# Altium footprint library fan_control.PcbLib: 1 footprints
Each footprint in its own frame and in the unit in brackets; x right, y up, seen from the top. Pads: shape width x height; smd on the part's side, far side on the other; paste and mask are expansions set on the pad; w line width, h text height; cw(c..) or ccw(c..) is an arc to the next point about the centre after c.
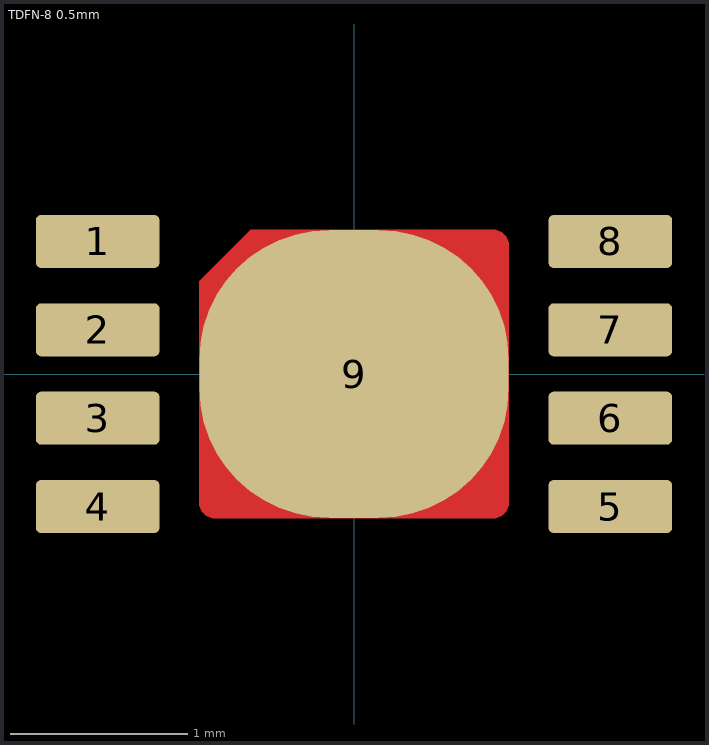
[diagram p0: the footprint, top view; thin cyan lines are the x and y axes]

## TDFN-8 0.5mm [mm] "TDFN, 8 Pin, 0.5mm Spacing"
pads (9):
  rrect20% 0.7x0.3 smd: 1(-1.45,0.75) 2(-1.45,0.25) 3(-1.45,-0.25) 4(-1.45,-0.75) 5(1.45,-0.75) 6(1.45,-0.25) 7(1.45,0.25) 8(1.45,0.75)
  rrect90% 1.75x1.63 smd: 9(0,0)
Top Layer:
  region: -0.585,0.815 -0.875,0.525 -0.875,-0.725 -0.875,-0.743 -0.861,-0.776 -0.836,-0.801 -0.803,-0.815 -0.785,-0.815 0.785,-0.815 0.803,-0.815 0.836,-0.801 0.861,-0.776 0.875,-0.743 0.875,-0.725 0.875,0.725 0.875,0.743 0.861,0.776 0.836,0.801 0.803,0.815 0.785,0.815
3D body: height 0.75, standoff 0.02, extent -1.5,-1 1.5,1
3D body: height 0.2, standoff 0, extent -1.501,-0.875 -1.101,-0.625
3D body: height 0.2, standoff 0, extent -1.501,-0.375 -1.101,-0.125
3D body: height 0.2, standoff 0, extent -1.501,0.125 -1.101,0.375
3D body: height 0.2, standoff 0, extent -1.501,0.625 -1.101,0.875
3D body: height 0.2, standoff 0, extent 1.101,-0.875 1.501,-0.625
3D body: height 0.2, standoff 0, extent 1.101,-0.375 1.501,-0.125
3D body: height 0.2, standoff 0, extent 1.101,0.125 1.501,0.375
3D body: height 0.2, standoff 0, extent 1.101,0.625 1.501,0.875
3D body: height 0.2, standoff 0, extent -0.875,-0.815 0.875,0.815